# Altium footprint library WS-TATU.PcbLib: 4 footprints
Each footprint in its own frame and in the unit in brackets; x right, y up, seen from the top. Pads: shape width x height; smd on the part's side, far side on the other; paste and mask are expansions set on the pad; w line width, h text height; cw(c..) or ccw(c..) is an arc to the next point about the centre after c.
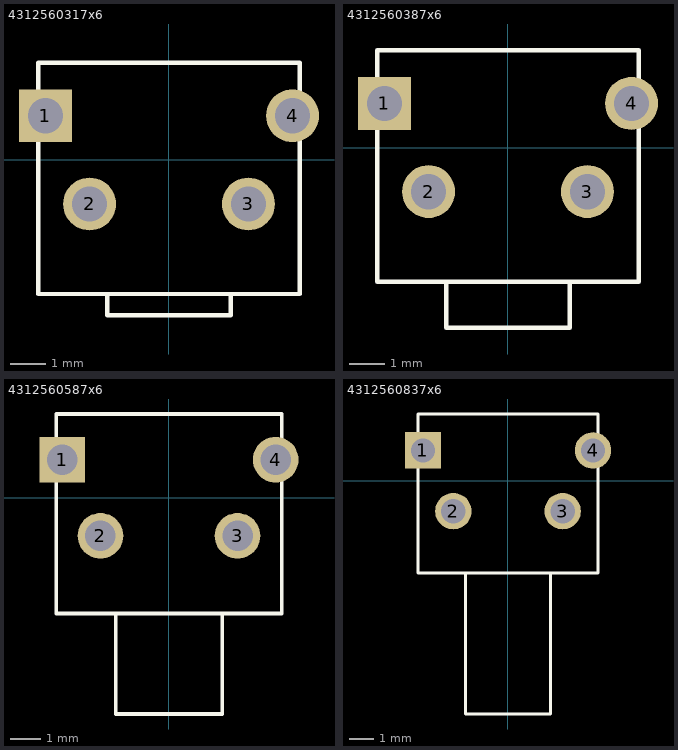
[diagram p0: the footprints below, top view; thin cyan lines are the x and y axes]

## 4312560317x6 [mm] "6*6mm right-angled,THT, height 3.15mm, black actuator, 160gf, Bulk"
height 7.2
pads (4):
  rect 1.5x1.5 hole 1: 1(-3.5,1.25)
  round 1.5 hole 1: 2(-2.25,-1.25) 3(2.25,-1.25) 4(3.5,1.25)
Top Overlay:
  lines w0.127: -1.75,-3.8 -3.7,-3.8 -3.7,2.75 3.7,2.75 3.7,-3.8 1.75,-3.8 ; -1.75,-3.8 1.75,-3.8 ; -1.75,-3.8 -1.75,-4.4 1.75,-4.4 1.75,-3.8
3D body: height 7.21, standoff -3.49, extent -4.2,-4.4 4.2,2.75

## 4312560387x6 [mm]
height 7.2
pads (4):
  rect 1.5x1.5 hole 1: 1(-3.5,1.25)
  round 1.5 hole 1: 2(-2.25,-1.25) 3(2.25,-1.25) 4(3.5,1.25)
Top Overlay:
  lines w0.127: -1.75,-3.8 -1.75,-5.1 1.75,-5.1 1.75,-3.8 ; -1.75,-3.8 1.75,-3.8 ; -1.75,-3.8 -3.7,-3.8 -3.7,2.75 3.7,2.75 3.7,-3.8 1.75,-3.8
3D body: height 7.21, standoff -3.49, extent -4.2,-5.1 4.2,2.75

## 4312560587x6 [mm] "6*6mm right angle Tact switch,THT, height 5.85mm, black actuator, 160gf, Bulk"
height 7.2
pads (4):
  rect 1.5x1.5 hole 1: 1(-3.5,1.25)
  round 1.5 hole 1: 2(-2.25,-1.25) 3(2.25,-1.25) 4(3.5,1.25)
Top Overlay:
  lines w0.127: -1.75,-3.8 -3.7,-3.8 -3.7,2.75 3.7,2.75 3.7,-3.8 1.75,-3.8 ; -1.75,-3.8 1.75,-3.8 ; -1.75,-3.8 -1.75,-7.1 1.75,-7.1 1.75,-3.8
3D body: height 7.21, standoff -3.49, extent -4.2,-7.1 4.2,2.75

## 4312560837x6 [mm] "6*6mm right angle Tact switch,THT, height 8.35mm, black actuator, 160gf, Bulk"
height 7.2
pads (4):
  rect 1.5x1.5 hole 1: 1(-3.5,1.25)
  round 1.5 hole 1: 2(-2.25,-1.25) 3(2.25,-1.25) 4(3.5,1.25)
Top Overlay:
  lines w0.127: -1.75,-3.8 -1.75,-9.6 1.75,-9.6 1.75,-3.8 ; -1.75,-3.8 1.75,-3.8 ; -1.75,-3.8 -3.7,-3.8 -3.7,2.75 3.7,2.75 3.7,-3.8 1.75,-3.8
3D body: height 7.21, standoff -3.49, extent -4.2,-9.6 4.2,2.75